# EAGLE library part 06H (library con-harting-h)
CONNECTOR
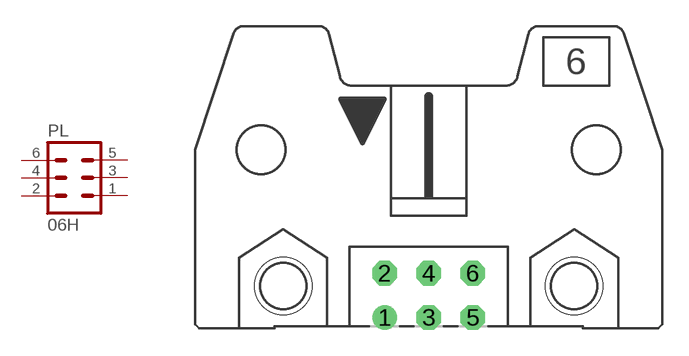
[diagram p1: symbol with the pads of 06H; footprint 06H]

Designator prefix PL

## 06H (OC_FARNELL: unknown; OC_NEWARK: unknown)  [06H]
1  1  pas
2  2  pas
3  3  pas
4  4  pas
5  5  pas
6  6  pas

## Footprint 06H (pad centres in mm)
CONNECTOR
drill 0.914: 1 -2.54,-1.27
drill 0.914 octagon: 2 -2.54,1.27; 3 0,-1.27; 4 0,1.27; 5 2.54,-1.27; 6 2.54,1.27
hole 3.302 at -8.382,0.533
hole 3.302 at 8.382,0.533